# Altium integrated library TI Data Converters Analog to Digital Converter.IntLib: 2197 symbols (part 19 of 168)
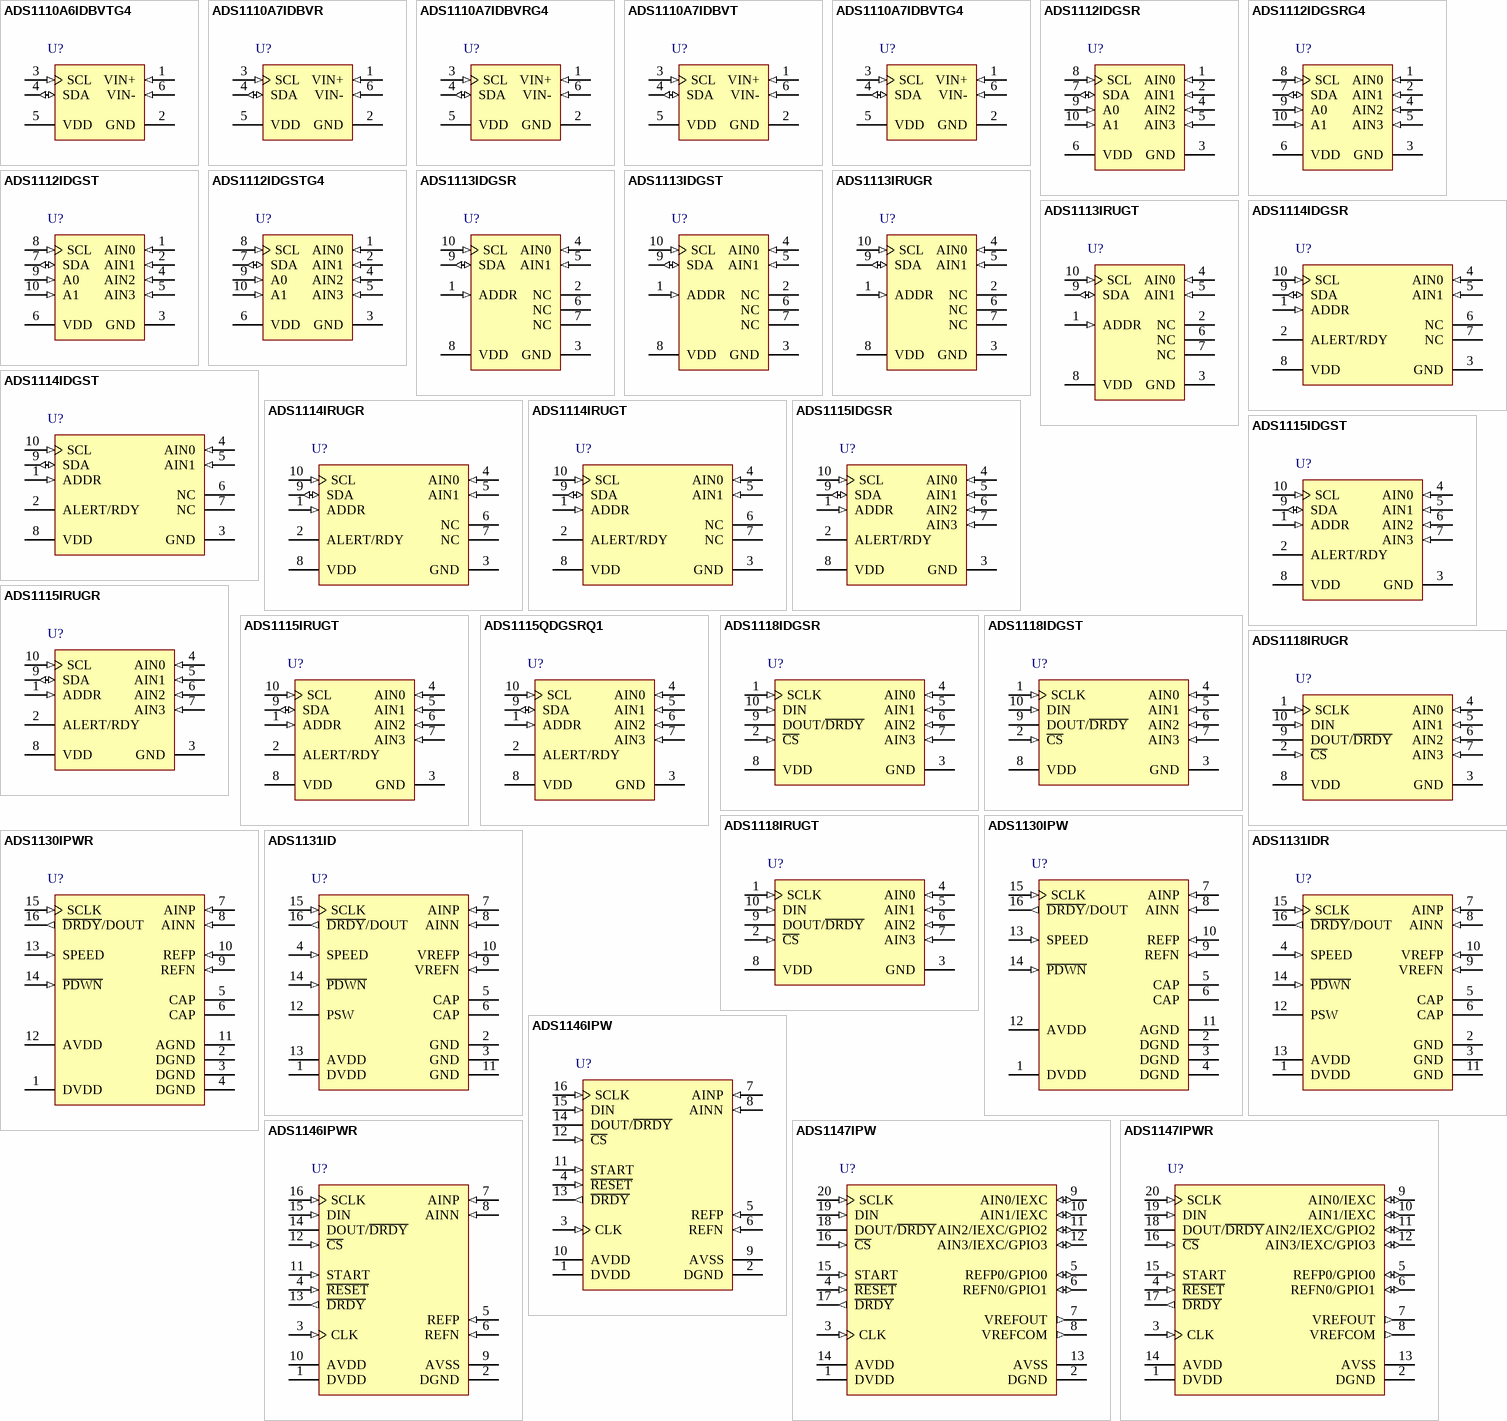
[diagram p144: symbols ADS1110A6IDBVTG4 to ADS1147IPWR]

## ADS1112IDGSTG4
designator U?
16-Bit 240 SPS ADC, 2 Channel Differential Single-End Input, Low power Complete System, -40 to 85 degC, 10-pin SOP (DGS10), Green (RoHS & no Sb/Br); Manufacturer: Texas Instruments; PartNumber: ADS1112IDGSTG4; # Input Channels: 3; Analog Voltage AV/DD(Max)(V): 5.5; Analog Voltage AV/DD(Min)(V): 2.7; Architecture: Delta-Sigma; ENOB(Bits): 16; Interface: Serial I2C; Sample Rate (max)(SPS): 308; SubFamily: Precision ADC (<=10MSPS); DatasheetVersion: SBAS282D; PackageVersion: 4073272/C, 02/2004; PackageReference: DGS10; PackageDescription: 10-Pin Plastic Small Outline, Body 3 x 3 mm, Pitch 0.5 mm; Supplier 1: Digi-Key; Supplier Part Number 1: 296-2913-5-ND; Supplier 2: Mouser; Supplier Part Number 2: 595-TLC2554ID; Digital Supply(Max)(V): 5.5; Digital Supply(Min)(V): 2.7; Eco-Plan: Green (RoHS & no Sb/Br); Resolution(Bits): 16; Mounting Technology: Surface Mount; Code_JEDEC: MO-153; ComponentLink1Description: Manufacturer URL; ComponentLink1URL: http://www.ti.com/; ComponentLink2Description: Datasheet; ComponentLink2URL: http://www.ti.com/general/docs/lit/getliterature.tsp?genericPartNumber=ADS1112&fileType=pdf; ComponentLink3Description: Package Specification; ComponentLink3URL: http://www.ti.com/lit/ml/mpds035b/mpds035b.pdf
footprint TI-DGS10_N (SOP, 10-Leads, Body 3x3mm, Pitch 0.5mm, IPC Medium Density)
footprint TI-DGS10_L (SOP, 10-Leads, Body 3x3mm, Pitch 0.5mm, IPC High Density)
footprint TI-DGS10_M (SOP, 10-Leads, Body 3x3mm, Pitch 0.5mm, IPC Low Density)
pins: 1 AIN0 (in) "Differential Channel 1; Positive Input Single-ended Channel 1 Input", 2 AIN1 (in) "Differential Channel 1; Negative Input Single-ended Channel 2 Input", 3 GND (power) "Ground", 4 AIN2 (in) "Differential Channel 2; Positive Input Single-ended Channel 3 Input", 5 AIN3 (in) "Differential Channel 2; Negative Input Single-ended Common Input", 6 VDD (power) "Power Supply: 2.7V to 5.5V", 7 SDA (io) "Serial Data: Transmits and receives data", 8 SCL (in) "Serial Clock Input: Clocks output data on SDA", 9 A0 (in) "I2C Slave Address Select", 10 A1 (in) "I2C Slave Address Select"

## ADS1113IDGSR
designator U?
16-Bit ADC with Integrated Multiplexer, Oscillator, and Reference, -40 to 125 degC, 10-pin SOP (DGS10), Green (RoHS & no Sb/Br); Manufacturer: Texas Instruments; PartNumber: ADS1113IDGSR; # Input Channels: 1; Analog Voltage AV/DD(Max)(V): 5.5; Analog Voltage AV/DD(Min)(V): 2; Architecture: Delta-Sigma; Interface: Serial I2C; Resolution(Bits): 16; Sample Rate (max)(SPS): 860; SubFamily: Precision ADC (<=10MSPS); DatasheetVersion: SBAS444B; PackageVersion: 4073272/C, 02/2004; PackageReference: DGS10; PackageDescription: 10-Pin Plastic Small Outline, Body 3 x 3 mm, Pitch 0.5 mm; Supplier 1: Digi-Key; Supplier Part Number 1: TLC2554IDG4-ND; Supplier 2: Mouser; Supplier Part Number 2: 595-TLC2554IDG4; Digital Supply(Max)(V): 5.5; Digital Supply(Min)(V): 2; Eco-Plan: Green (RoHS & no Sb/Br); INL(Max)(+/-LSB): 1; Mounting Technology: Surface Mount; Code_JEDEC: MO-153; ComponentLink1Description: Manufacturer URL; ComponentLink1URL: http://www.ti.com/; ComponentLink2Description: Datasheet; ComponentLink2URL: http://www.ti.com/general/docs/lit/getliterature.tsp?genericPartNumber=ADS1113&fileType=pdf; ComponentLink3Description: Package Specification; ComponentLink3URL: http://www.ti.com/lit/ml/mpds035b/mpds035b.pdf
footprint TI-DGS10_N (SOP, 10-Leads, Body 3x3mm, Pitch 0.5mm, IPC Medium Density)
footprint TI-DGS10_L (SOP, 10-Leads, Body 3x3mm, Pitch 0.5mm, IPC High Density)
footprint TI-DGS10_M (SOP, 10-Leads, Body 3x3mm, Pitch 0.5mm, IPC Low Density)
pins: 1 ADDR (in) "I2C slave address select", 2 NC, 3 GND (power) "Ground", 4 AIN0 (in) "Differential channel 1: Positive input or single-ended channel 1 input", 5 AIN1 (in) "Differential channel 1: Negative input or single-ended channel 2 input", 6 NC, 7 NC, 8 VDD (power) "Power supply: 2.0V to 5.5V", 9 SDA (io) "Serial data: Transmits and receives data", 10 SCL (in) "Serial clock input: Clocks data on SDA"

## ADS1113IDGST
designator U?
16-Bit ADC with Integrated Multiplexer, Oscillator, and Reference, -40 to 125 degC, 10-pin SOP (DGS10), Green (RoHS & no Sb/Br); Manufacturer: Texas Instruments; PartNumber: ADS1113IDGST; # Input Channels: 1; Analog Voltage AV/DD(Max)(V): 5.5; Analog Voltage AV/DD(Min)(V): 2; Architecture: Delta-Sigma; Interface: Serial I2C; Resolution(Bits): 16; Sample Rate (max)(SPS): 860; SubFamily: Precision ADC (<=10MSPS); DatasheetVersion: SBAS444B; PackageVersion: 4073272/C, 02/2004; PackageReference: DGS10; PackageDescription: 10-Pin Plastic Small Outline, Body 3 x 3 mm, Pitch 0.5 mm; Supplier 1: Mouser; Supplier Part Number 1: N/A; Digital Supply(Max)(V): 5.5; Digital Supply(Min)(V): 2; Eco-Plan: Green (RoHS & no Sb/Br); INL(Max)(+/-LSB): 1; Mounting Technology: Surface Mount; Code_JEDEC: MO-153; ComponentLink1Description: Manufacturer URL; ComponentLink1URL: http://www.ti.com/; ComponentLink2Description: Datasheet; ComponentLink2URL: http://www.ti.com/general/docs/lit/getliterature.tsp?genericPartNumber=ADS1113&fileType=pdf; ComponentLink3Description: Package Specification; ComponentLink3URL: http://www.ti.com/lit/ml/mpds035b/mpds035b.pdf
footprint TI-DGS10_N (SOP, 10-Leads, Body 3x3mm, Pitch 0.5mm, IPC Medium Density)
footprint TI-DGS10_L (SOP, 10-Leads, Body 3x3mm, Pitch 0.5mm, IPC High Density)
footprint TI-DGS10_M (SOP, 10-Leads, Body 3x3mm, Pitch 0.5mm, IPC Low Density)
pins: 1 ADDR (in) "I2C slave address select", 2 NC, 3 GND (power) "Ground", 4 AIN0 (in) "Differential channel 1: Positive input or single-ended channel 1 input", 5 AIN1 (in) "Differential channel 1: Negative input or single-ended channel 2 input", 6 NC, 7 NC, 8 VDD (power) "Power supply: 2.0V to 5.5V", 9 SDA (io) "Serial data: Transmits and receives data", 10 SCL (in) "Serial clock input: Clocks data on SDA"

## ADS1113IRUGR
designator U?
16-Bit ADC with Integrated Multiplexer, Oscillator, and Reference, -40 to 125 degC, 10-pin HandDrawn (RUG10), Green (RoHS & no Sb/Br); Manufacturer: Texas Instruments; PartNumber: ADS1113IRUGR; # Input Channels: 1; Analog Voltage AV/DD(Max)(V): 5.5; Analog Voltage AV/DD(Min)(V): 2; Architecture: Delta-Sigma; Interface: Serial I2C; Resolution(Bits): 16; Sample Rate (max)(SPS): 860; SubFamily: Precision ADC (<=10MSPS); DatasheetVersion: SBAS444B; PackageVersion: 4208528-3/B, 04/2008; PackageReference: RUG10; PackageDescription: 10-Pin Plastic Quad Flatpack, Body 1.5 x 2 mm, Pitch 0.5 mm; Supplier 1: Mouser; Supplier Part Number 1: N/A; Digital Supply(Max)(V): 5.5; Digital Supply(Min)(V): 2; Eco-Plan: Green (RoHS & no Sb/Br); INL(Max)(+/-LSB): 1; Mounting Technology: Surface Mount; Code_JEDEC: MO-288; ComponentLink1Description: Manufacturer URL; ComponentLink1URL: http://www.ti.com/; ComponentLink2Description: Datasheet; ComponentLink2URL: http://www.ti.com/general/docs/lit/getliterature.tsp?genericPartNumber=ADS1113&fileType=pdf; ComponentLink3Description: Package Specification; ComponentLink3URL: http://www.ti.com/litv/pdf/mpqf216a
footprint TI-RUG10_V (QFN, 10-Leads, Body 2x1.5mm)
pins: 1 ADDR (in) "I2C slave address select", 2 NC, 3 GND (power) "Ground", 4 AIN0 (in) "Differential channel 1: Positive input or single-ended channel 1 input", 5 AIN1 (in) "Differential channel 1: Negative input or single-ended channel 2 input", 6 NC, 7 NC, 8 VDD (power) "Power supply: 2.0V to 5.5V", 9 SDA (io) "Serial data: Transmits and receives data", 10 SCL (in) "Serial clock input: Clocks data on SDA"

## ADS1113IRUGT
designator U?
16-Bit ADC with Integrated Multiplexer, Oscillator, and Reference, -40 to 125 degC, 10-pin HandDrawn (RUG10), Green (RoHS & no Sb/Br); Manufacturer: Texas Instruments; PartNumber: ADS1113IRUGT; # Input Channels: 1; Analog Voltage AV/DD(Max)(V): 5.5; Analog Voltage AV/DD(Min)(V): 2; Architecture: Delta-Sigma; Interface: Serial I2C; Resolution(Bits): 16; Sample Rate (max)(SPS): 860; SubFamily: Precision ADC (<=10MSPS); DatasheetVersion: SBAS444B; PackageVersion: 4208528-3/B, 04/2008; PackageReference: RUG10; PackageDescription: 10-Pin Plastic Quad Flatpack, Body 1.5 x 2 mm, Pitch 0.5 mm; Supplier 1: Digi-Key; Supplier Part Number 1: ADS1250U-ND; Supplier 2: Newark; Supplier Part Number 2: 74K3629; Supplier 3: Mouser; Supplier Part Number 3: 595-ADS1250U; Digital Supply(Max)(V): 5.5; Digital Supply(Min)(V): 2; Eco-Plan: Green (RoHS & no Sb/Br); INL(Max)(+/-LSB): 1; Mounting Technology: Surface Mount; Code_JEDEC: MO-288; ComponentLink1Description: Manufacturer URL; ComponentLink1URL: http://www.ti.com/; ComponentLink2Description: Datasheet; ComponentLink2URL: http://www.ti.com/general/docs/lit/getliterature.tsp?genericPartNumber=ADS1113&fileType=pdf; ComponentLink3Description: Package Specification; ComponentLink3URL: http://www.ti.com/litv/pdf/mpqf216a
footprint TI-RUG10_V (QFN, 10-Leads, Body 2x1.5mm)
pins: 1 ADDR (in) "I2C slave address select", 2 NC, 3 GND (power) "Ground", 4 AIN0 (in) "Differential channel 1: Positive input or single-ended channel 1 input", 5 AIN1 (in) "Differential channel 1: Negative input or single-ended channel 2 input", 6 NC, 7 NC, 8 VDD (power) "Power supply: 2.0V to 5.5V", 9 SDA (io) "Serial data: Transmits and receives data", 10 SCL (in) "Serial clock input: Clocks data on SDA"

## ADS1114IDGSR
designator U?
16-Bit ADC with Integrated Multiplexer, PGA, Comparator, Oscillator, and Reference, -40 to 125 degC, 10-pin SOP (DGS10), Green (RoHS & no Sb/Br); Manufacturer: Texas Instruments; PartNumber: ADS1114IDGSR; # Input Channels: 1; Analog Voltage AV/DD(Max)(V): 5.5; Analog Voltage AV/DD(Min)(V): 2; Architecture: Delta-Sigma; Interface: Serial I2C; Resolution(Bits): 16; Sample Rate (max)(SPS): 860; SubFamily: Precision ADC (<=10MSPS); DatasheetVersion: SBAS444B; PackageVersion: 4073272/C, 02/2004; PackageReference: DGS10; PackageDescription: 10-Pin Plastic Small Outline, Body 3 x 3 mm, Pitch 0.5 mm; Supplier 1: Digi-Key; Supplier Part Number 1: ADS1250U/1K-ND; Supplier 2: Newark; Supplier Part Number 2: 74C7000; Supplier 3: Mouser; Supplier Part Number 3: 595-ADS1250U/1K; Digital Supply(Max)(V): 5.5; Digital Supply(Min)(V): 2; Eco-Plan: Green (RoHS & no Sb/Br); INL(Max)(+/-LSB): 1; Mounting Technology: Surface Mount; Code_JEDEC: MO-153; ComponentLink1Description: Manufacturer URL; ComponentLink1URL: http://www.ti.com/; ComponentLink2Description: Datasheet; ComponentLink2URL: http://www.ti.com/general/docs/lit/getliterature.tsp?genericPartNumber=ADS1114&fileType=pdf; ComponentLink3Description: Package Specification; ComponentLink3URL: http://www.ti.com/lit/ml/mpds035b/mpds035b.pdf
footprint TI-DGS10_N (SOP, 10-Leads, Body 3x3mm, Pitch 0.5mm, IPC Medium Density)
footprint TI-DGS10_L (SOP, 10-Leads, Body 3x3mm, Pitch 0.5mm, IPC High Density)
footprint TI-DGS10_M (SOP, 10-Leads, Body 3x3mm, Pitch 0.5mm, IPC Low Density)
pins: 1 ADDR (in) "I2C slave address select", 2 ALERT/RDY (oc) "Digital comparator output or conversion ready", 3 GND (power) "Ground", 4 AIN0 (in) "Differential channel 1: Positive input or single-ended channel 1 input", 5 AIN1 (in) "Differential channel 1: Negative input or single-ended channel 2 input", 6 NC, 7 NC, 8 VDD (power) "Power supply: 2.0V to 5.5V", 9 SDA (io) "Serial data: Transmits and receives data", 10 SCL (in) "Serial clock input: Clocks data on SDA"

## ADS1114IDGST
designator U?
16-Bit ADC with Integrated Multiplexer, PGA, Comparator, Oscillator, and Reference, -40 to 125 degC, 10-pin SOP (DGS10), Green (RoHS & no Sb/Br); Manufacturer: Texas Instruments; PartNumber: ADS1114IDGST; # Input Channels: 1; Analog Voltage AV/DD(Max)(V): 5.5; Analog Voltage AV/DD(Min)(V): 2; Architecture: Delta-Sigma; Interface: Serial I2C; Resolution(Bits): 16; Sample Rate (max)(SPS): 860; SubFamily: Precision ADC (<=10MSPS); DatasheetVersion: SBAS444B; PackageVersion: 4073272/C, 02/2004; PackageReference: DGS10; PackageDescription: 10-Pin Plastic Small Outline, Body 3 x 3 mm, Pitch 0.5 mm; Supplier 1: Digi-Key; Supplier Part Number 1: ADS1250U/1KG4-ND; Supplier 2: Newark; Supplier Part Number 2: 73K7071; Supplier 3: Mouser; Supplier Part Number 3: 595-ADS1250U/1KG4; Digital Supply(Max)(V): 5.5; Digital Supply(Min)(V): 2; Eco-Plan: Green (RoHS & no Sb/Br); INL(Max)(+/-LSB): 1; Mounting Technology: Surface Mount; Code_JEDEC: MO-153; ComponentLink1Description: Manufacturer URL; ComponentLink1URL: http://www.ti.com/; ComponentLink2Description: Datasheet; ComponentLink2URL: http://www.ti.com/general/docs/lit/getliterature.tsp?genericPartNumber=ADS1114&fileType=pdf; ComponentLink3Description: Package Specification; ComponentLink3URL: http://www.ti.com/lit/ml/mpds035b/mpds035b.pdf
footprint TI-DGS10_N (SOP, 10-Leads, Body 3x3mm, Pitch 0.5mm, IPC Medium Density)
footprint TI-DGS10_L (SOP, 10-Leads, Body 3x3mm, Pitch 0.5mm, IPC High Density)
footprint TI-DGS10_M (SOP, 10-Leads, Body 3x3mm, Pitch 0.5mm, IPC Low Density)
pins: 1 ADDR (in) "I2C slave address select", 2 ALERT/RDY (oc) "Digital comparator output or conversion ready", 3 GND (power) "Ground", 4 AIN0 (in) "Differential channel 1: Positive input or single-ended channel 1 input", 5 AIN1 (in) "Differential channel 1: Negative input or single-ended channel 2 input", 6 NC, 7 NC, 8 VDD (power) "Power supply: 2.0V to 5.5V", 9 SDA (io) "Serial data: Transmits and receives data", 10 SCL (in) "Serial clock input: Clocks data on SDA"

## ADS1114IRUGR
designator U?
16-Bit ADC with Integrated Multiplexer, PGA, Comparator, Oscillator, and Reference, -40 to 125 degC, 10-pin HandDrawn (RUG10), Green (RoHS & no Sb/Br); Manufacturer: Texas Instruments; PartNumber: ADS1114IRUGR; # Input Channels: 1; Analog Voltage AV/DD(Max)(V): 5.5; Analog Voltage AV/DD(Min)(V): 2; Architecture: Delta-Sigma; Interface: Serial I2C; Resolution(Bits): 16; Sample Rate (max)(SPS): 860; SubFamily: Precision ADC (<=10MSPS); DatasheetVersion: SBAS444B; PackageVersion: 4208528-3/B, 04/2008; PackageReference: RUG10; PackageDescription: 10-Pin Plastic Quad Flatpack, Body 1.5 x 2 mm, Pitch 0.5 mm; Supplier 1: Digi-Key; Supplier Part Number 1: ADS1250UG4-ND; Supplier 2: Newark; Supplier Part Number 2: 24K4018; Supplier 3: Mouser; Supplier Part Number 3: 595-ADS1250UG4; Digital Supply(Max)(V): 5.5; Digital Supply(Min)(V): 2; Eco-Plan: Green (RoHS & no Sb/Br); INL(Max)(+/-LSB): 1; Mounting Technology: Surface Mount; Code_JEDEC: MO-288; ComponentLink1Description: Manufacturer URL; ComponentLink1URL: http://www.ti.com/; ComponentLink2Description: Datasheet; ComponentLink2URL: http://www.ti.com/general/docs/lit/getliterature.tsp?genericPartNumber=ADS1114&fileType=pdf; ComponentLink3Description: Package Specification; ComponentLink3URL: http://www.ti.com/litv/pdf/mpqf216a
footprint TI-RUG10_V (QFN, 10-Leads, Body 2x1.5mm)
pins: 1 ADDR (in) "I2C slave address select", 2 ALERT/RDY (oc) "Digital comparator output or conversion ready", 3 GND (power) "Ground", 4 AIN0 (in) "Differential channel 1: Positive input or single-ended channel 1 input", 5 AIN1 (in) "Differential channel 1: Negative input or single-ended channel 2 input", 6 NC, 7 NC, 8 VDD (power) "Power supply: 2.0V to 5.5V", 9 SDA (io) "Serial data: Transmits and receives data", 10 SCL (in) "Serial clock input: Clocks data on SDA"

## ADS1114IRUGT
designator U?
16-Bit ADC with Integrated Multiplexer, PGA, Comparator, Oscillator, and Reference, -40 to 125 degC, 10-pin HandDrawn (RUG10), Green (RoHS & no Sb/Br); Manufacturer: Texas Instruments; PartNumber: ADS1114IRUGT; # Input Channels: 1; Analog Voltage AV/DD(Max)(V): 5.5; Analog Voltage AV/DD(Min)(V): 2; Architecture: Delta-Sigma; Interface: Serial I2C; Resolution(Bits): 16; Sample Rate (max)(SPS): 860; SubFamily: Precision ADC (<=10MSPS); DatasheetVersion: SBAS444B; PackageVersion: 4208528-3/B, 04/2008; PackageReference: RUG10; PackageDescription: 10-Pin Plastic Quad Flatpack, Body 1.5 x 2 mm, Pitch 0.5 mm; Supplier 1: Digi-Key; Supplier Part Number 1: 296-32814-5-ND; Supplier 2: Newark; Supplier Part Number 2: 74C7006; Supplier 3: Mouser; Supplier Part Number 3: 595-ADS1253E; Digital Supply(Max)(V): 5.5; Digital Supply(Min)(V): 2; Eco-Plan: Green (RoHS & no Sb/Br); INL(Max)(+/-LSB): 1; Mounting Technology: Surface Mount; Code_JEDEC: MO-288; ComponentLink1Description: Manufacturer URL; ComponentLink1URL: http://www.ti.com/; ComponentLink2Description: Datasheet; ComponentLink2URL: http://www.ti.com/general/docs/lit/getliterature.tsp?genericPartNumber=ADS1114&fileType=pdf; ComponentLink3Description: Package Specification; ComponentLink3URL: http://www.ti.com/litv/pdf/mpqf216a
footprint TI-RUG10_V (QFN, 10-Leads, Body 2x1.5mm)
pins: 1 ADDR (in) "I2C slave address select", 2 ALERT/RDY (oc) "Digital comparator output or conversion ready", 3 GND (power) "Ground", 4 AIN0 (in) "Differential channel 1: Positive input or single-ended channel 1 input", 5 AIN1 (in) "Differential channel 1: Negative input or single-ended channel 2 input", 6 NC, 7 NC, 8 VDD (power) "Power supply: 2.0V to 5.5V", 9 SDA (io) "Serial data: Transmits and receives data", 10 SCL (in) "Serial clock input: Clocks data on SDA"

## ADS1115IDGSR
designator U?
16-Bit ADC with Integrated Multiplexer, PGA, Comparator, Oscillator, and Reference, -40 to 125 degC, 10-pin SOP (DGS10), Green (RoHS & no Sb/Br); Manufacturer: Texas Instruments; PartNumber: ADS1115IDGSR; # Input Channels: 4; Analog Voltage AV/DD(Max)(V): 5.5; Analog Voltage AV/DD(Min)(V): 2; Architecture: Delta-Sigma; INL(Max)(+/-LSB): 1; Interface: Serial I2C; Resolution(Bits): 16; Sample Rate (max)(SPS): 860; SubFamily: Precision ADC (<=10MSPS); DatasheetVersion: SBAS444B; PackageVersion: 4073272/C, 02/2004; PackageReference: DGS10; PackageDescription: 10-Pin Plastic Small Outline, Body 3 x 3 mm, Pitch 0.5 mm; Supplier 1: Digi-Key; Supplier Part Number 1: 296-13060-2-ND; Supplier 2: Digi-Key; Supplier Part Number 2: 296-13060-1-ND; Supplier 3: Digi-Key; Supplier Part Number 3: 296-13060-6-ND; Supplier 4: Newark; Supplier Part Number 4: 74C7007; Supplier 5: Mouser; Supplier Part Number 5: 595-ADS1253E/2K5; Digital Supply(Max)(V): 5.5; Digital Supply(Min)(V): 2; Eco-Plan: Green (RoHS & no Sb/Br); Mounting Technology: Surface Mount; Code_JEDEC: MO-153; ComponentLink1Description: Manufacturer URL; ComponentLink1URL: http://www.ti.com/; ComponentLink2Description: Datasheet; ComponentLink2URL: http://www.ti.com/general/docs/lit/getliterature.tsp?genericPartNumber=ADS1115&fileType=pdf; ComponentLink3Description: Package Specification; ComponentLink3URL: http://www.ti.com/lit/ml/mpds035b/mpds035b.pdf
footprint TI-DGS10_N (SOP, 10-Leads, Body 3x3mm, Pitch 0.5mm, IPC Medium Density)
footprint TI-DGS10_L (SOP, 10-Leads, Body 3x3mm, Pitch 0.5mm, IPC High Density)
footprint TI-DGS10_M (SOP, 10-Leads, Body 3x3mm, Pitch 0.5mm, IPC Low Density)
pins: 1 ADDR (in) "I2C slave address select", 2 ALERT/RDY (oc) "Digital comparator output or conversion ready", 3 GND (power) "Ground", 4 AIN0 (in) "Differential channel 1: Positive input or single-ended channel 1 input", 5 AIN1 (in) "Differential channel 1: Negative input or single-ended channel 2 input", 6 AIN2 (in) "Differential channel 2: Positive input or single-ended channel 3 input", 7 AIN3 (in) "Differential channel 2: Negative input or single-ended channel 4 input", 8 VDD (power) "Power supply: 2.0V to 5.5V", 9 SDA (io) "Serial data: Transmits and receives data", 10 SCL (in) "Serial clock input: Clocks data on SDA"

## ADS1115IDGST
designator U?
16-Bit ADC with Integrated Multiplexer, PGA, Comparator, Oscillator, and Reference, -40 to 125 degC, 10-pin SOP (DGS10), Green (RoHS & no Sb/Br); Manufacturer: Texas Instruments; PartNumber: ADS1115IDGST; # Input Channels: 4; Analog Voltage AV/DD(Max)(V): 5.5; Analog Voltage AV/DD(Min)(V): 2; Architecture: Delta-Sigma; INL(Max)(+/-LSB): 1; Interface: Serial I2C; Resolution(Bits): 16; Sample Rate (max)(SPS): 860; SubFamily: Precision ADC (<=10MSPS); DatasheetVersion: SBAS444B; PackageVersion: 4073272/C, 02/2004; PackageReference: DGS10; PackageDescription: 10-Pin Plastic Small Outline, Body 3 x 3 mm, Pitch 0.5 mm; Supplier 1: Digi-Key; Supplier Part Number 1: ADS1253E/2K5G4-ND; Supplier 2: Mouser; Supplier Part Number 2: 595-ADS1253E/2K5G4; Digital Supply(Max)(V): 5.5; Digital Supply(Min)(V): 2; Eco-Plan: Green (RoHS & no Sb/Br); Mounting Technology: Surface Mount; Code_JEDEC: MO-153; ComponentLink1Description: Manufacturer URL; ComponentLink1URL: http://www.ti.com/; ComponentLink2Description: Datasheet; ComponentLink2URL: http://www.ti.com/general/docs/lit/getliterature.tsp?genericPartNumber=ADS1115&fileType=pdf; ComponentLink3Description: Package Specification; ComponentLink3URL: http://www.ti.com/lit/ml/mpds035b/mpds035b.pdf
footprint TI-DGS10_N (SOP, 10-Leads, Body 3x3mm, Pitch 0.5mm, IPC Medium Density)
footprint TI-DGS10_L (SOP, 10-Leads, Body 3x3mm, Pitch 0.5mm, IPC High Density)
footprint TI-DGS10_M (SOP, 10-Leads, Body 3x3mm, Pitch 0.5mm, IPC Low Density)
pins: 1 ADDR (in) "I2C slave address select", 2 ALERT/RDY (oc) "Digital comparator output or conversion ready", 3 GND (power) "Ground", 4 AIN0 (in) "Differential channel 1: Positive input or single-ended channel 1 input", 5 AIN1 (in) "Differential channel 1: Negative input or single-ended channel 2 input", 6 AIN2 (in) "Differential channel 2: Positive input or single-ended channel 3 input", 7 AIN3 (in) "Differential channel 2: Negative input or single-ended channel 4 input", 8 VDD (power) "Power supply: 2.0V to 5.5V", 9 SDA (io) "Serial data: Transmits and receives data", 10 SCL (in) "Serial clock input: Clocks data on SDA"

## ADS1115IRUGR
designator U?
16-Bit ADC with Integrated Multiplexer, PGA, Comparator, Oscillator, and Reference, -40 to 125 degC, 10-pin HandDrawn (RUG10), Green (RoHS & no Sb/Br); Manufacturer: Texas Instruments; PartNumber: ADS1115IRUGR; # Input Channels: 4; Analog Voltage AV/DD(Max)(V): 5.5; Analog Voltage AV/DD(Min)(V): 2; Architecture: Delta-Sigma; INL(Max)(+/-LSB): 1; Interface: Serial I2C; Resolution(Bits): 16; Sample Rate (max)(SPS): 860; SubFamily: Precision ADC (<=10MSPS); DatasheetVersion: SBAS444B; PackageVersion: 4208528-3/B, 04/2008; PackageReference: RUG10; PackageDescription: 10-Pin Plastic Quad Flatpack, Body 1.5 x 2 mm, Pitch 0.5 mm; Supplier 1: Digi-Key; Supplier Part Number 1: ADS1253EG4-ND; Supplier 2: Farnell; Supplier Part Number 2: 1214423; Supplier 3: Newark; Supplier Part Number 3: 96K6213; Supplier 4: Mouser; Supplier Part Number 4: 595-ADS1253EG4; Digital Supply(Max)(V): 5.5; Digital Supply(Min)(V): 2; Eco-Plan: Green (RoHS & no Sb/Br); Mounting Technology: Surface Mount; Code_JEDEC: MO-288; ComponentLink1Description: Manufacturer URL; ComponentLink1URL: http://www.ti.com/; ComponentLink2Description: Datasheet; ComponentLink2URL: http://www.ti.com/general/docs/lit/getliterature.tsp?genericPartNumber=ADS1115&fileType=pdf; ComponentLink3Description: Package Specification; ComponentLink3URL: http://www.ti.com/litv/pdf/mpqf216a
footprint TI-RUG10_V (QFN, 10-Leads, Body 2x1.5mm)
pins: 1 ADDR (in) "I2C slave address select", 2 ALERT/RDY (oc) "Digital comparator output or conversion ready", 3 GND (power) "Ground", 4 AIN0 (in) "Differential channel 1: Positive input or single-ended channel 1 input", 5 AIN1 (in) "Differential channel 1: Negative input or single-ended channel 2 input", 6 AIN2 (in) "Differential channel 2: Positive input or single-ended channel 3 input", 7 AIN3 (in) "Differential channel 2: Negative input or single-ended channel 4 input", 8 VDD (power) "Power supply: 2.0V to 5.5V", 9 SDA (io) "Serial data: Transmits and receives data", 10 SCL (in) "Serial clock input: Clocks data on SDA"

## ADS1115IRUGT
designator U?
16-Bit ADC with Integrated Multiplexer, PGA, Comparator, Oscillator, and Reference, -40 to 125 degC, 10-pin HandDrawn (RUG10), Green (RoHS & no Sb/Br); Manufacturer: Texas Instruments; PartNumber: ADS1115IRUGT; # Input Channels: 4; Analog Voltage AV/DD(Max)(V): 5.5; Analog Voltage AV/DD(Min)(V): 2; Architecture: Delta-Sigma; INL(Max)(+/-LSB): 1; Interface: Serial I2C; Resolution(Bits): 16; Sample Rate (max)(SPS): 860; SubFamily: Precision ADC (<=10MSPS); DatasheetVersion: SBAS444B; PackageVersion: 4208528-3/B, 04/2008; PackageReference: RUG10; PackageDescription: 10-Pin Plastic Quad Flatpack, Body 1.5 x 2 mm, Pitch 0.5 mm; Supplier 1: Digi-Key; Supplier Part Number 1: ADS8343E-ND; Supplier 2: Mouser; Supplier Part Number 2: 595-ADS8343E; Digital Supply(Max)(V): 5.5; Digital Supply(Min)(V): 2; Eco-Plan: Green (RoHS & no Sb/Br); Mounting Technology: Surface Mount; Code_JEDEC: MO-288; ComponentLink1Description: Manufacturer URL; ComponentLink1URL: http://www.ti.com/; ComponentLink2Description: Datasheet; ComponentLink2URL: http://www.ti.com/general/docs/lit/getliterature.tsp?genericPartNumber=ADS1115&fileType=pdf; ComponentLink3Description: Package Specification; ComponentLink3URL: http://www.ti.com/litv/pdf/mpqf216a
footprint TI-RUG10_V (QFN, 10-Leads, Body 2x1.5mm)
pins: 1 ADDR (in) "I2C slave address select", 2 ALERT/RDY (oc) "Digital comparator output or conversion ready", 3 GND (power) "Ground", 4 AIN0 (in) "Differential channel 1: Positive input or single-ended channel 1 input", 5 AIN1 (in) "Differential channel 1: Negative input or single-ended channel 2 input", 6 AIN2 (in) "Differential channel 2: Positive input or single-ended channel 3 input", 7 AIN3 (in) "Differential channel 2: Negative input or single-ended channel 4 input", 8 VDD (power) "Power supply: 2.0V to 5.5V", 9 SDA (io) "Serial data: Transmits and receives data", 10 SCL (in) "Serial clock input: Clocks data on SDA"

## ADS1115QDGSRQ1
designator U?
Automotive Catalog 16-Bit ADC with Integrated Multiplexer, PGA, Comparator, Oscillator, and Reference, -40 to 125 degC, 10-pin SOP (DGS10), Green (RoHS & no Sb/Br); Manufacturer: Texas Instruments; PartNumber: ADS1115QDGSRQ1; # Input Channels: 4; Analog Voltage AV/DD(Max)(V): 5.5; Analog Voltage AV/DD(Min)(V): 2; Architecture: Delta-Sigma; INL(Max)(+/-LSB): 1; Interface: Serial I2C; Resolution(Bits): 16; Sample Rate (max)(SPS): 860; SubFamily: Precision ADC (<=10MSPS); DatasheetVersion: SBAS563; PackageVersion: 4073272/C, 02/2004; PackageReference: DGS10; PackageDescription: 10-Pin Plastic Small Outline, Body 3 x 3 mm, Pitch 0.5 mm; Supplier 1: Digi-Key; Supplier Part Number 1: ADS8343E/2K5-ND; Supplier 2: Mouser; Supplier Part Number 2: 595-ADS8343E/2K5; Digital Supply(Max)(V): 5.5; Digital Supply(Min)(V): 2; Eco-Plan: Green (RoHS & no Sb/Br); Mounting Technology: Surface Mount; Code_JEDEC: MO-153; ComponentLink1Description: Manufacturer URL; ComponentLink1URL: http://www.ti.com/; ComponentLink2Description: Datasheet; ComponentLink2URL: http://www.ti.com/general/docs/lit/getliterature.tsp?genericPartNumber=ADS1115-Q1&fileType=pdf; ComponentLink3Description: Package Specification; ComponentLink3URL: http://www.ti.com/lit/ml/mpds035b/mpds035b.pdf
footprint TI-DGS10_N (SOP, 10-Leads, Body 3x3mm, Pitch 0.5mm, IPC Medium Density)
footprint TI-DGS10_L (SOP, 10-Leads, Body 3x3mm, Pitch 0.5mm, IPC High Density)
footprint TI-DGS10_M (SOP, 10-Leads, Body 3x3mm, Pitch 0.5mm, IPC Low Density)
pins: 1 ADDR (in) "I2C slave address select", 2 ALERT/RDY (oc) "Digital comparator output or conversion ready", 3 GND (power) "Ground", 4 AIN0 (in) "Differential channel 1: Positive input or single-ended channel 1 input", 5 AIN1 (in) "Differential channel 1: Negative input or single-ended channel 2 input", 6 AIN2 (in) "Differential channel 2: Positive input or single-ended channel 3 input", 7 AIN3 (in) "Differential channel 2: Negative input or single-ended channel 4 input", 8 VDD (power) "Power supply: 2.0V to 5.5V", 9 SDA (io) "Serial data: Transmits and receives data", 10 SCL (in) "Serial clock input: Clocks data on SDA"

## ADS1118IDGSR
designator U?
16-Bit ADC with Integrated Multiplexer, PGA, Temperature Sensor, Oscillator, and Reference, -40 to 125 degC, 10-pin SOP (DGS10), Green (RoHS & no Sb/Br); Manufacturer: Texas Instruments; PartNumber: ADS1118IDGSR; # Input Channels: 4; Analog Voltage AV/DD(Max)(V): 5.5; Analog Voltage AV/DD(Min)(V): 2; Architecture: Delta-Sigma; INL(Max)(+/-LSB): 1; Interface: Serial SPI; Resolution(Bits): 16; Sample Rate (max)(SPS): 860; SubFamily: Precision ADC (<=10MSPS); DatasheetVersion: SBAS457C; PackageVersion: 4073272/C, 02/2004; PackageReference: DGS10; PackageDescription: 10-Pin Plastic Small Outline, Body 3 x 3 mm, Pitch 0.5 mm; Supplier 1: Digi-Key; Supplier Part Number 1: ADS8343E/2K5G4-ND; Supplier 2: Mouser; Supplier Part Number 2: 595-ADS8343E/2K5G4; Digital Supply(Max)(V): 5.5; Digital Supply(Min)(V): 2; Eco-Plan: Green (RoHS & no Sb/Br); Mounting Technology: Surface Mount; Code_JEDEC: MO-153; ComponentLink1Description: Manufacturer URL; ComponentLink1URL: http://www.ti.com/; ComponentLink2Description: Datasheet; ComponentLink2URL: http://www.ti.com/general/docs/lit/getliterature.tsp?genericPartNumber=ADS1118&fileType=pdf; ComponentLink3Description: Package Specification; ComponentLink3URL: http://www.ti.com/lit/ml/mpds035b/mpds035b.pdf
footprint TI-DGS10_N (SOP, 10-Leads, Body 3x3mm, Pitch 0.5mm, IPC Medium Density)
footprint TI-DGS10_L (SOP, 10-Leads, Body 3x3mm, Pitch 0.5mm, IPC High Density)
footprint TI-DGS10_M (SOP, 10-Leads, Body 3x3mm, Pitch 0.5mm, IPC Low Density)
pins: 1 SCLK (in) "Serial clock input", 2 ~{CS} (in) "Chip select; active low", 3 GND (power) "Ground", 4 AIN0 (in) "Differential channel 1: positive input or single-ended channel 1 input", 5 AIN1 (in) "Differential channel 1: negative input or single-ended channel 2 input", 6 AIN2 (in) "Differential channel 2: positive input or single-ended channel 3 input", 7 AIN3 (in) "Differential channel 2: negative input or single-ended channel 4 input", 8 VDD (power) "Power supply: 2.0 V to 5.5 V", 9 DOUT/~{DRDY} (hiz) "Serial data out combined with data ready; active low", 10 DIN (in) "Serial data input"

## ADS1118IDGST
designator U?
16-Bit ADC with Integrated Multiplexer, PGA, Temperature Sensor, Oscillator, and Reference, -40 to 125 degC, 10-pin SOP (DGS10), Green (RoHS & no Sb/Br); Manufacturer: Texas Instruments; PartNumber: ADS1118IDGST; # Input Channels: 4; Analog Voltage AV/DD(Max)(V): 5.5; Analog Voltage AV/DD(Min)(V): 2; Architecture: Delta-Sigma; INL(Max)(+/-LSB): 1; Interface: Serial SPI; Resolution(Bits): 16; Sample Rate (max)(SPS): 860; SubFamily: Precision ADC (<=10MSPS); DatasheetVersion: SBAS457C; PackageVersion: 4073272/C, 02/2004; PackageReference: DGS10; PackageDescription: 10-Pin Plastic Small Outline, Body 3 x 3 mm, Pitch 0.5 mm; Supplier 1: Digi-Key; Supplier Part Number 1: ADS8343EB-ND; Supplier 2: Mouser; Supplier Part Number 2: 595-ADS8343EB; Digital Supply(Max)(V): 5.5; Digital Supply(Min)(V): 2; Eco-Plan: Green (RoHS & no Sb/Br); Mounting Technology: Surface Mount; Code_JEDEC: MO-153; ComponentLink1Description: Manufacturer URL; ComponentLink1URL: http://www.ti.com/; ComponentLink2Description: Datasheet; ComponentLink2URL: http://www.ti.com/general/docs/lit/getliterature.tsp?genericPartNumber=ADS1118&fileType=pdf; ComponentLink3Description: Package Specification; ComponentLink3URL: http://www.ti.com/lit/ml/mpds035b/mpds035b.pdf
footprint TI-DGS10_N (SOP, 10-Leads, Body 3x3mm, Pitch 0.5mm, IPC Medium Density)
footprint TI-DGS10_L (SOP, 10-Leads, Body 3x3mm, Pitch 0.5mm, IPC High Density)
footprint TI-DGS10_M (SOP, 10-Leads, Body 3x3mm, Pitch 0.5mm, IPC Low Density)
pins: 1 SCLK (in) "Serial clock input", 2 ~{CS} (in) "Chip select; active low", 3 GND (power) "Ground", 4 AIN0 (in) "Differential channel 1: positive input or single-ended channel 1 input", 5 AIN1 (in) "Differential channel 1: negative input or single-ended channel 2 input", 6 AIN2 (in) "Differential channel 2: positive input or single-ended channel 3 input", 7 AIN3 (in) "Differential channel 2: negative input or single-ended channel 4 input", 8 VDD (power) "Power supply: 2.0 V to 5.5 V", 9 DOUT/~{DRDY} (hiz) "Serial data out combined with data ready; active low", 10 DIN (in) "Serial data input"

## ADS1118IRUGR
designator U?
16-Bit ADC with Integrated Multiplexer, PGA, Temperature Sensor, Oscillator, and Reference, -40 to 125 degC, 10-pin X2QFN (RUG10), Green (RoHS & no Sb/Br); Manufacturer: Texas Instruments; PartNumber: ADS1118IRUGR; # Input Channels: 4; Analog Voltage AV/DD(Max)(V): 5.5; Analog Voltage AV/DD(Min)(V): 2; Architecture: Delta-Sigma; INL(Max)(+/-LSB): 1; Interface: Serial SPI; Resolution(Bits): 16; Sample Rate (max)(SPS): 860; SubFamily: Precision ADC (<=10MSPS); DatasheetVersion: SBAS457C; PackageVersion: 4208528-3/B, 04/2008; PackageReference: RUG10; PackageDescription: 10-Pin Plastic Quad Flatpack, Body 1.5 x 2 mm, Pitch 0.5 mm; Supplier 1: Digi-Key; Supplier Part Number 1: ADS8343EBG4-ND; Supplier 2: Farnell; Supplier Part Number 2: 1214425; Supplier 3: Mouser; Supplier Part Number 3: 595-ADS8343EBG4; Digital Supply(Max)(V): 5.5; Digital Supply(Min)(V): 2; Eco-Plan: Green (RoHS & no Sb/Br); Mounting Technology: Surface Mount; Code_JEDEC: MO-288; ComponentLink1Description: Manufacturer URL; ComponentLink1URL: http://www.ti.com/; ComponentLink2Description: Datasheet; ComponentLink2URL: http://www.ti.com/general/docs/lit/getliterature.tsp?genericPartNumber=ADS1118&fileType=pdf; ComponentLink3Description: Package Specification; ComponentLink3URL: http://www.ti.com/litv/pdf/mpqf216a
footprint TI-RUG10_V (QFN, 10-Leads, Body 2x1.5mm)
pins: 1 SCLK (in) "Serial clock input", 2 ~{CS} (in) "Chip select; active low", 3 GND (power) "Ground", 4 AIN0 (in) "Differential channel 1: positive input or single-ended channel 1 input", 5 AIN1 (in) "Differential channel 1: negative input or single-ended channel 2 input", 6 AIN2 (in) "Differential channel 2: positive input or single-ended channel 3 input", 7 AIN3 (in) "Differential channel 2: negative input or single-ended channel 4 input", 8 VDD (power) "Power supply: 2.0 V to 5.5 V", 9 DOUT/~{DRDY} (hiz) "Serial data out combined with data ready; active low", 10 DIN (in) "Serial data input"

## ADS1118IRUGT
designator U?
16-Bit ADC with Integrated Multiplexer, PGA, Temperature Sensor, Oscillator, and Reference, -40 to 125 degC, 10-pin X2QFN (RUG10), Green (RoHS & no Sb/Br); Manufacturer: Texas Instruments; PartNumber: ADS1118IRUGT; # Input Channels: 4; Analog Voltage AV/DD(Max)(V): 5.5; Analog Voltage AV/DD(Min)(V): 2; Architecture: Delta-Sigma; INL(Max)(+/-LSB): 1; Interface: Serial SPI; Resolution(Bits): 16; Sample Rate (max)(SPS): 860; SubFamily: Precision ADC (<=10MSPS); DatasheetVersion: SBAS457C; PackageVersion: 4208528-3/B, 04/2008; PackageReference: RUG10; PackageDescription: 10-Pin Plastic Quad Flatpack, Body 1.5 x 2 mm, Pitch 0.5 mm; Supplier 1: Digi-Key; Supplier Part Number 1: ADS8343EG4-ND; Supplier 2: Mouser; Supplier Part Number 2: 595-ADS8343EG4; Digital Supply(Max)(V): 5.5; Digital Supply(Min)(V): 2; Eco-Plan: Green (RoHS & no Sb/Br); Mounting Technology: Surface Mount; Code_JEDEC: MO-288; ComponentLink1Description: Manufacturer URL; ComponentLink1URL: http://www.ti.com/; ComponentLink2Description: Datasheet; ComponentLink2URL: http://www.ti.com/general/docs/lit/getliterature.tsp?genericPartNumber=ADS1118&fileType=pdf; ComponentLink3Description: Package Specification; ComponentLink3URL: http://www.ti.com/litv/pdf/mpqf216a
footprint TI-RUG10_V (QFN, 10-Leads, Body 2x1.5mm)
pins: 1 SCLK (in) "Serial clock input", 2 ~{CS} (in) "Chip select; active low", 3 GND (power) "Ground", 4 AIN0 (in) "Differential channel 1: positive input or single-ended channel 1 input", 5 AIN1 (in) "Differential channel 1: negative input or single-ended channel 2 input", 6 AIN2 (in) "Differential channel 2: positive input or single-ended channel 3 input", 7 AIN3 (in) "Differential channel 2: negative input or single-ended channel 4 input", 8 VDD (power) "Power supply: 2.0 V to 5.5 V", 9 DOUT/~{DRDY} (hiz) "Serial data out combined with data ready; active low", 10 DIN (in) "Serial data input"

## ADS1130IPW
designator U?
18-Bit ADC for Bridge Sensor, -40 to 85 degC, 16-pin SOP (PW16), Green (RoHS & no Sb/Br); Manufacturer: Texas Instruments; PartNumber: ADS1130IPW; # Input Channels: 1; Analog Voltage AV/DD(Max)(V): 5.3; Analog Voltage AV/DD(Min)(V): 2.7; Architecture: Delta-Sigma; Interface: Serial SPI; Resolution(Bits): 18; Sample Rate (max)(SPS): 80; SubFamily: High Speed ADC (>10MSPS); DatasheetVersion: SBAS458A; PackageVersion: 4040064-4/G, 02/2011; PackageReference: PW16; PackageDescription: 16-Pin Plastic Small Outline, Body 5 x 4.4 mm, Pitch 0.65 mm; Supplier 1: Digi-Key; Supplier Part Number 1: ADS8341E-ND; Supplier 2: Farnell; Supplier Part Number 2: 1212292; Supplier 3: Newark; Supplier Part Number 3: 35C1585; Supplier 4: Mouser; Supplier Part Number 4: 595-ADS8341E; Digital Supply(Max)(V): 5.3; Digital Supply(Min)(V): 2.7; Eco-Plan: Green (RoHS & no Sb/Br); Mounting Technology: Surface Mount; Code_JEDEC: MO-153; ComponentLink1Description: Manufacturer URL; ComponentLink1URL: http://www.ti.com/; ComponentLink2Description: Datasheet; ComponentLink2URL: http://www.ti.com/general/docs/lit/getliterature.tsp?genericPartNumber=ADS1130&fileType=pdf; ComponentLink3Description: Package Specification; ComponentLink3URL: http://www.ti.com/lit/ml/mpds361/mpds361.pdf
footprint TI-PW16_N (SOP, 16-Leads, Body 5x4.4mm, Pitch 0.65mm, IPC Medium Density)
footprint TI-PW16_L (SOP, 16-Leads, Body 5x4.4mm, Pitch 0.65mm, IPC High Density)
footprint TI-PW16_M (SOP, 16-Leads, Body 5x4.4mm, Pitch 0.65mm, IPC Low Density)
pins: 1 DVDD (power) "Digital power supply: 2.7V to 5.3V", 2 DGND (power) "Digital ground", 3 DGND (power) "Digital ground", 4 DGND (power) "Digital ground", 5 CAP "Gain amplifier bypass capacitor connection", 6 CAP "Gain amplifier bypass capacitor connection", 7 AINP (in) "Positive analog input", 8 AINN (in) "Negative analog input", 9 REFN (in) "Negative reference input", 10 REFP (in) "Positive reference input", 11 AGND (power) "Analog ground", 12 AVDD (power) "Analog power supply, 2.7V to 5.3V", 13 SPEED (in) "Data rate select:", 14 ~{PDWN} (in) "Power-down: Holding this pin low powers down the entire converter and resets the ADC.", 15 SCLK (in) "Serial clock: Clock out data on the rising edge. Also used to initiate Sleep mode. See the Standby Mode section for more details.", 16 ~{DRDY}/DOUT (out) "Dual-purpose output:Data ready: Indicates valid data by going low.Data output: Outputs data, MSB first, on the first rising edge of SCLK."

## ADS1130IPWR
designator U?
18-Bit ADC for Bridge Sensor, -40 to 85 degC, 16-pin SOP (PW16), Green (RoHS & no Sb/Br); Manufacturer: Texas Instruments; PartNumber: ADS1130IPWR; # Input Channels: 1; Analog Voltage AV/DD(Max)(V): 5.3; Analog Voltage AV/DD(Min)(V): 2.7; Architecture: Delta-Sigma; Interface: Serial SPI; Resolution(Bits): 18; Sample Rate (max)(SPS): 80; SubFamily: High Speed ADC (>10MSPS); DatasheetVersion: SBAS458A; PackageVersion: 4040064-4/G, 02/2011; PackageReference: PW16; PackageDescription: 16-Pin Plastic Small Outline, Body 5 x 4.4 mm, Pitch 0.65 mm; Supplier 1: Digi-Key; Supplier Part Number 1: ADS8341E/2K5-ND; Supplier 2: Newark; Supplier Part Number 2: 74C7241; Supplier 3: Mouser; Supplier Part Number 3: 595-ADS8341E/2K5; Digital Supply(Max)(V): 5.3; Digital Supply(Min)(V): 2.7; Eco-Plan: Green (RoHS & no Sb/Br); Mounting Technology: Surface Mount; Code_JEDEC: MO-153; ComponentLink1Description: Manufacturer URL; ComponentLink1URL: http://www.ti.com/; ComponentLink2Description: Datasheet; ComponentLink2URL: http://www.ti.com/general/docs/lit/getliterature.tsp?genericPartNumber=ADS1130&fileType=pdf; ComponentLink3Description: Package Specification; ComponentLink3URL: http://www.ti.com/lit/ml/mpds361/mpds361.pdf
footprint TI-PW16_N (SOP, 16-Leads, Body 5x4.4mm, Pitch 0.65mm, IPC Medium Density)
footprint TI-PW16_L (SOP, 16-Leads, Body 5x4.4mm, Pitch 0.65mm, IPC High Density)
footprint TI-PW16_M (SOP, 16-Leads, Body 5x4.4mm, Pitch 0.65mm, IPC Low Density)
pins: 1 DVDD (power) "Digital power supply: 2.7V to 5.3V", 2 DGND (power) "Digital ground", 3 DGND (power) "Digital ground", 4 DGND (power) "Digital ground", 5 CAP "Gain amplifier bypass capacitor connection", 6 CAP "Gain amplifier bypass capacitor connection", 7 AINP (in) "Positive analog input", 8 AINN (in) "Negative analog input", 9 REFN (in) "Negative reference input", 10 REFP (in) "Positive reference input", 11 AGND (power) "Analog ground", 12 AVDD (power) "Analog power supply, 2.7V to 5.3V", 13 SPEED (in) "Data rate select:", 14 ~{PDWN} (in) "Power-down: Holding this pin low powers down the entire converter and resets the ADC.", 15 SCLK (in) "Serial clock: Clock out data on the rising edge. Also used to initiate Sleep mode. See the Standby Mode section for more details.", 16 ~{DRDY}/DOUT (out) "Dual-purpose output:Data ready: Indicates valid data by going low.Data output: Outputs data, MSB first, on the first rising edge of SCLK."

## ADS1131ID
designator U?
18-Bit ADC for Bridge Sensor, -40 to 85 degC, 16-pin SOIC (D16), Green (RoHS & no Sb/Br); Manufacturer: Texas Instruments; PartNumber: ADS1131ID; # Input Channels: 1; Analog Voltage AV/DD(Max)(V): 5.3; Analog Voltage AV/DD(Min)(V): 2.7; Architecture: Delta-Sigma; Interface: Serial; Resolution(Bits): 18; Sample Rate (max)(SPS): 80; SubFamily: High Speed ADC (>10MSPS); DatasheetVersion: SBAS449B; PackageVersion: 4040047-6/M, 06/2011; PackageReference: D16; PackageDescription: 16-Pin Plastic Small Outline, Body 9.9 x 3.9 mm, Pitch 1.27 mm; Supplier 1: Digi-Key; Supplier Part Number 1: ADS8341E/2K5G4-ND; Supplier 2: Mouser; Supplier Part Number 2: 595-ADS8341E/2K5G4; Digital Supply(Max)(V): 5.3; Digital Supply(Min)(V): 2.7; Eco-Plan: Green (RoHS & no Sb/Br); Mounting Technology: Surface Mount; Code_JEDEC: MS-012; ComponentLink1Description: Manufacturer URL; ComponentLink1URL: http://www.ti.com/; ComponentLink2Description: Datasheet; ComponentLink2URL: http://www.ti.com/general/docs/lit/getliterature.tsp?genericPartNumber=ADS1131&fileType=pdf; ComponentLink3Description: Package Specification; ComponentLink3URL: http://www.ti.com/litv/pdf/mpds178g
footprint TI-D16_N (SOIC, 16-Leads, Body 9.9x3.9mm, Pitch 1.27mm, IPC Medium Density)
footprint TI-D16_L (SOIC, 16-Leads, Body 9.9x3.9mm, Pitch 1.27mm, IPC High Density)
footprint TI-D16_M (SOIC, 16-Leads, Body 9.9x3.9mm, Pitch 1.27mm, IPC Low Density)
pins: 1 DVDD (power) "Digital power supply", 2 GND (power) "Ground for digital and analog supplies", 3 GND (power) "Ground for digital and analog supplies", 4 SPEED (in) "Data rate select:", 5 CAP "Gain amplifier bypass capacitor connection", 6 CAP "Gain amplifier bypass capacitor connection", 7 AINP (in) "Positive analog input", 8 AINN (in) "Negative analog input", 9 VREFN (in) "Negative reference input", 10 VREFP (in) "Positive reference input", 11 GND (power) "Ground for digital and analog supplies", 12 PSW (power) "Low-side power switch", 13 AVDD (power) "Analog power supply", 14 ~{PDWN} (in) "Power-down: holding this pin low powers down the entire converter and resets the ADC.", 15 SCLK (in) "Serial clock: clock out data on the rising edge. Also used to initiate Standby mode. See the Standby Mode section for more details.", 16 ~{DRDY}/DOUT (out) "Dual-purpose output:Data ready: indicates valid data by going low.Data output: outputs data, MSB first, on the first rising edge of SCLK."

## ADS1131IDR
designator U?
18-Bit ADC for Bridge Sensor, -40 to 85 degC, 16-pin SOIC (D16), Green (RoHS & no Sb/Br); Manufacturer: Texas Instruments; PartNumber: ADS1131IDR; # Input Channels: 1; Analog Voltage AV/DD(Max)(V): 5.3; Analog Voltage AV/DD(Min)(V): 2.7; Architecture: Delta-Sigma; Interface: Serial; Resolution(Bits): 18; Sample Rate (max)(SPS): 80; SubFamily: High Speed ADC (>10MSPS); DatasheetVersion: SBAS449B; PackageVersion: 4040047-6/M, 06/2011; PackageReference: D16; PackageDescription: 16-Pin Plastic Small Outline, Body 9.9 x 3.9 mm, Pitch 1.27 mm; Supplier 1: Digi-Key; Supplier Part Number 1: ADS8341EB-ND; Supplier 2: Farnell; Supplier Part Number 2: 1100946; Supplier 3: Mouser; Supplier Part Number 3: 595-ADS8341EB; Digital Supply(Max)(V): 5.3; Digital Supply(Min)(V): 2.7; Eco-Plan: Green (RoHS & no Sb/Br); Mounting Technology: Surface Mount; Code_JEDEC: MS-012; ComponentLink1Description: Manufacturer URL; ComponentLink1URL: http://www.ti.com/; ComponentLink2Description: Datasheet; ComponentLink2URL: http://www.ti.com/general/docs/lit/getliterature.tsp?genericPartNumber=ADS1131&fileType=pdf; ComponentLink3Description: Package Specification; ComponentLink3URL: http://www.ti.com/litv/pdf/mpds178g
footprint TI-D16_N (SOIC, 16-Leads, Body 9.9x3.9mm, Pitch 1.27mm, IPC Medium Density)
footprint TI-D16_L (SOIC, 16-Leads, Body 9.9x3.9mm, Pitch 1.27mm, IPC High Density)
footprint TI-D16_M (SOIC, 16-Leads, Body 9.9x3.9mm, Pitch 1.27mm, IPC Low Density)
pins: 1 DVDD (power) "Digital power supply", 2 GND (power) "Ground for digital and analog supplies", 3 GND (power) "Ground for digital and analog supplies", 4 SPEED (in) "Data rate select:", 5 CAP "Gain amplifier bypass capacitor connection", 6 CAP "Gain amplifier bypass capacitor connection", 7 AINP (in) "Positive analog input", 8 AINN (in) "Negative analog input", 9 VREFN (in) "Negative reference input", 10 VREFP (in) "Positive reference input", 11 GND (power) "Ground for digital and analog supplies", 12 PSW (power) "Low-side power switch", 13 AVDD (power) "Analog power supply", 14 ~{PDWN} (in) "Power-down: holding this pin low powers down the entire converter and resets the ADC.", 15 SCLK (in) "Serial clock: clock out data on the rising edge. Also used to initiate Standby mode. See the Standby Mode section for more details.", 16 ~{DRDY}/DOUT (out) "Dual-purpose output:Data ready: indicates valid data by going low.Data output: outputs data, MSB first, on the first rising edge of SCLK."

## ADS1146IPW
designator U?
16-Bit ADC for Temperature Sensor, -40 to 105 degC, 16-pin SOP (PW16), Green (RoHS & no Sb/Br); Manufacturer: Texas Instruments; PartNumber: ADS1146IPW; # Input Channels: 1; Analog Voltage AV/DD(Max)(V): 5.25; Analog Voltage AV/DD(Min)(V): 2.7; Architecture: Delta-Sigma; Interface: Serial SPI; Resolution(Bits): 16; Sample Rate (max)(SPS): 2k; SubFamily: Precision ADC (<=10MSPS); DatasheetVersion: SBAS453F; PackageVersion: 4040064-4/G, 02/2011; PackageReference: PW16; PackageDescription: 16-Pin Plastic Small Outline, Body 5 x 4.4 mm, Pitch 0.65 mm; Supplier 1: Digi-Key; Supplier Part Number 1: ADS8341EB/2K5-ND; Supplier 2: Mouser; Supplier Part Number 2: 595-ADS8341EB/2K5; Digital Supply(Max)(V): 5.25; Digital Supply(Min)(V): 2.7; Eco-Plan: Green (RoHS & no Sb/Br); INL(Max)(+/-LSB): 1; Mounting Technology: Surface Mount; Code_JEDEC: MO-153; ComponentLink1Description: Manufacturer URL; ComponentLink1URL: http://www.ti.com/; ComponentLink2Description: Datasheet; ComponentLink2URL: http://www.ti.com/general/docs/lit/getliterature.tsp?genericPartNumber=ADS1146&fileType=pdf; ComponentLink3Description: Package Specification; ComponentLink3URL: http://www.ti.com/lit/ml/mpds361/mpds361.pdf
footprint TI-PW16_N (SOP, 16-Leads, Body 5x4.4mm, Pitch 0.65mm, IPC Medium Density)
footprint TI-PW16_L (SOP, 16-Leads, Body 5x4.4mm, Pitch 0.65mm, IPC High Density)
footprint TI-PW16_M (SOP, 16-Leads, Body 5x4.4mm, Pitch 0.65mm, IPC Low Density)
pins: 1 DVDD (power) "Digital power supply", 2 DGND (power) "Digital ground", 3 CLK (in) "External clock input. Tie this pin to DGND to activate the internal oscillator.", 4 ~{RESET} (in) "Chip reset (active low). Returns all register values to reset values.", 5 REFP (in) "Positive external reference input", 6 REFN (in) "Negative external reference input", 7 AINP (in) "Positive analog input", 8 AINN (in) "Negative analog input", 9 AVSS (power) "Negative analog power supply", 10 AVDD (power) "Positive analog power supply", 11 START (in) "Conversion start. See text for description of use.", 12 ~{CS} (in) "Chip select (active low)", 13 ~{DRDY} (out) "Data ready (active low)", 14 DOUT/~{DRDY} (hiz) "Serial data out output, or data out combined with data ready (active low when D\R\D\Y\ function enabled)", 15 DIN (in) "Serial data input", 16 SCLK (in) "Serial clock input"